# Altium schematic symbol library lm76005rnpr.SchLib: 1 symbol
Pins are listed as number, name and electrical type; pins without a type are passive.

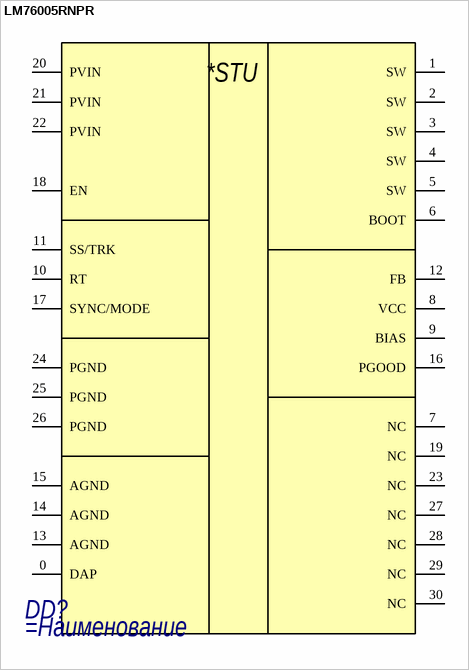
[diagram p0: symbol LM76005RNPR]

## LM76005RNPR
designator DD?
=Описание
pins: 0 DAP, 1 SW, 2 SW, 3 SW, 4 SW, 5 SW, 6 BOOT, 7 NC, 8 VCC, 9 BIAS, 10 RT, 11 SS/TRK, 12 FB, 13 AGND, 14 AGND, 15 AGND, 16 PGOOD, 17 SYNC/MODE, 18 EN, 19 NC, 20 PVIN, 21 PVIN, 22 PVIN, 23 NC, 24 PGND, 25 PGND, 26 PGND, 27 NC, 28 NC, 29 NC, 30 NC
text: *STU